# Altium footprint library TO-220AB.PCBLIB: 1 footprints
Each footprint in its own frame and in the unit in brackets; x right, y up, seen from the top. Pads: shape width x height; smd on the part's side, far side on the other; paste and mask are expansions set on the pad; w line width, h text height; cw(c..) or ccw(c..) is an arc to the next point about the centre after c.
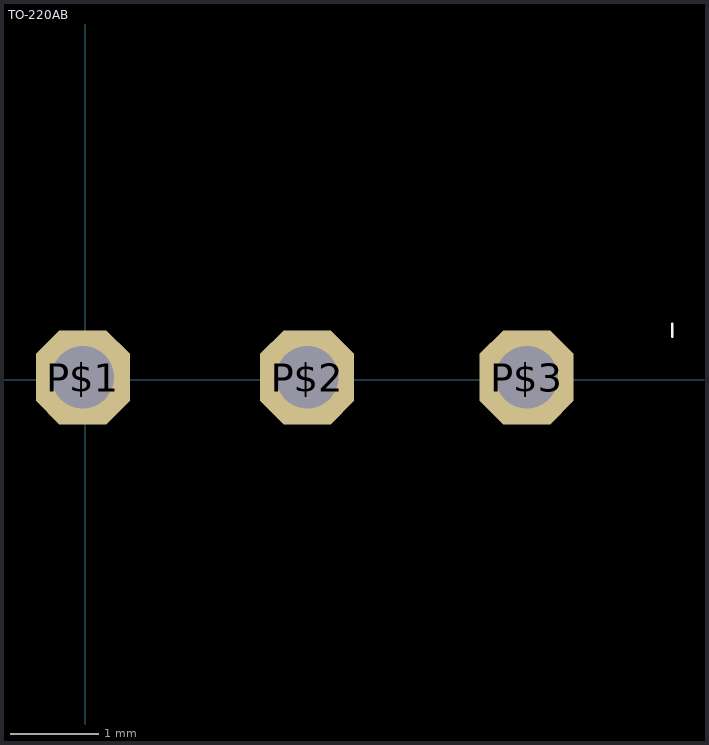
[diagram p0: the footprint, top view; thin cyan lines are the x and y axes]

## TO-220AB [mil]
pads (3):
  oct 42x42 hole 28: P$1(-1.18,1) P$2(99,1) P$3(197,1)
Top Overlay:
  lines w1: 262,19 262,25